# EAGLE library part SSM2167 (library gfe-hand-made)
SSM2167 is a Low Voltage Microphone Preamplifier with Variable Compression and Noise Gating
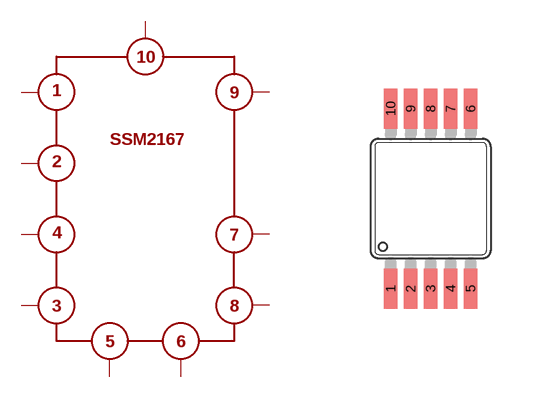
[diagram p0: symbol with the pads of MSOP-10; footprint MSOP-10]

Designator prefix -

## SSM2167  [MSOP-10]
1  1
2  2
3  3
4  4
5  5
6  6
7  7
8  8
9  9
10  10

## Footprint MSOP-10 (pad centres in mm)
smd 0.34 x 1: 1 -1,-2.25; 2 -0.5,-2.25; 3 0,-2.25; 4 0.5,-2.25; 5 1,-2.25; 6 1,2.25; 7 0.5,2.25; 8 0,2.25; 9 -0.5,2.25; 10 -1,2.25